# Altium footprint library CypressBLE.PcbLib: 1 footprints
Each footprint in its own frame and in the unit in brackets; x right, y up, seen from the top. Pads: shape width x height; smd on the part's side, far side on the other; paste and mask are expansions set on the pad; w line width, h text height; cw(c..) or ccw(c..) is an arc to the next point about the centre after c.
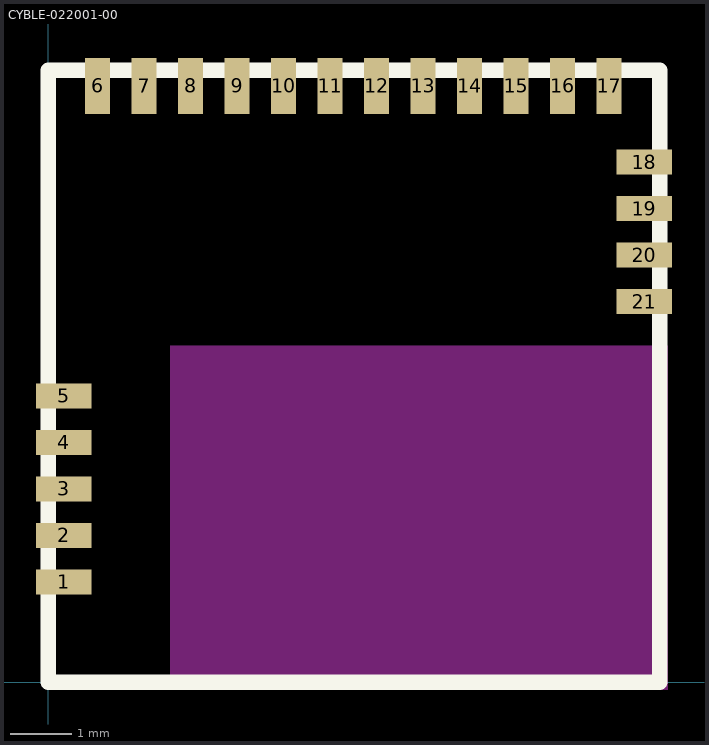
[diagram p0: the footprint, top view; thin cyan lines are the x and y axes]

## CYBLE-022001-00 [mm] "Cypress BLE module"
height 1.8
pads (21):
  rect 0.91x0.41 smd: 1(0.255,1.64) 2(0.255,2.4) 3(0.255,3.16) 4(0.255,3.92) 5(0.255,4.68) 18(9.745,8.5) 19(9.745,7.74) 20(9.745,6.98) 21(9.745,6.22)
  rect 0.41x0.91 smd: 6(0.81,9.745) 7(1.57,9.745) 8(2.33,9.745) 9(3.09,9.745) 10(3.85,9.745) 11(4.61,9.745) 12(5.37,9.745) 13(6.13,9.745) 14(6.89,9.745) 15(7.65,9.745) 16(8.41,9.745) 17(9.17,9.745)
Top Overlay:
  lines w0.254: 0,0 0,10 10,10 10,0 0,0
Keep-Out Layer:
  region: 10.125,-0.125 10.125,5.5 2,5.5 2,-0.125
3D body: height 1.8, standoff 0, extent -0.127,-0.127 10.127,10.127